# Altium footprint library DFant5.PcbLib: 1 footprints
Each footprint in its own frame and in the unit in brackets; x right, y up, seen from the top. Pads: shape width x height; smd on the part's side, far side on the other; paste and mask are expansions set on the pad; w line width, h text height; cw(c..) or ccw(c..) is an arc to the next point about the centre after c.
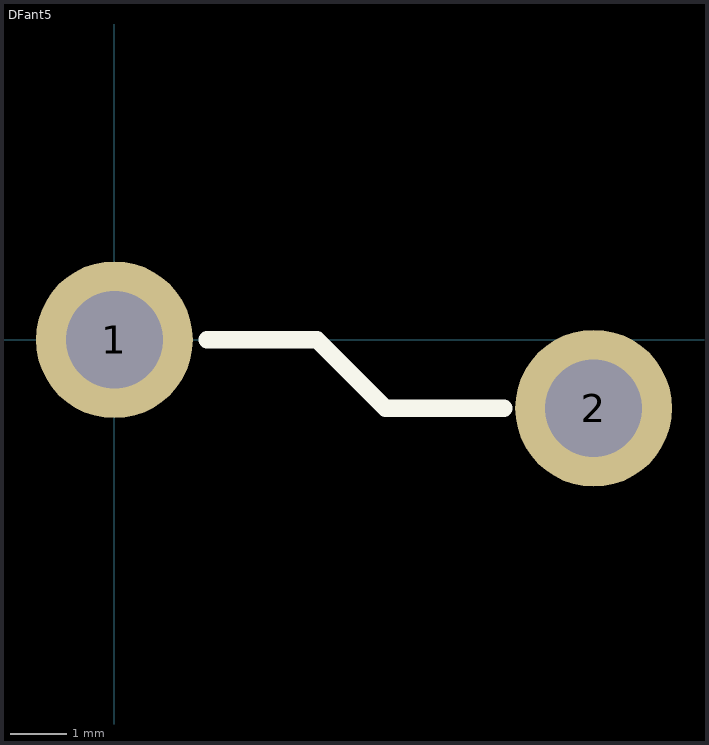
[diagram p0: the footprint, top view; thin cyan lines are the x and y axes]

## DFant5 [mil]
height 1
pads (2):
  round 110 hole 68: 1(0,0) 2(336,-48)
TopOverlay:
  lines w12: 65,0 142,0 190,-48 273,-48
3D body: height 470.06, standoff -122.26, extent -60.38,-84.09 4939.62,476.08